# Altium schematic symbol library Connector.SchLib: 35 symbols
Pins are listed as number, name and electrical type; pins without a type are passive.

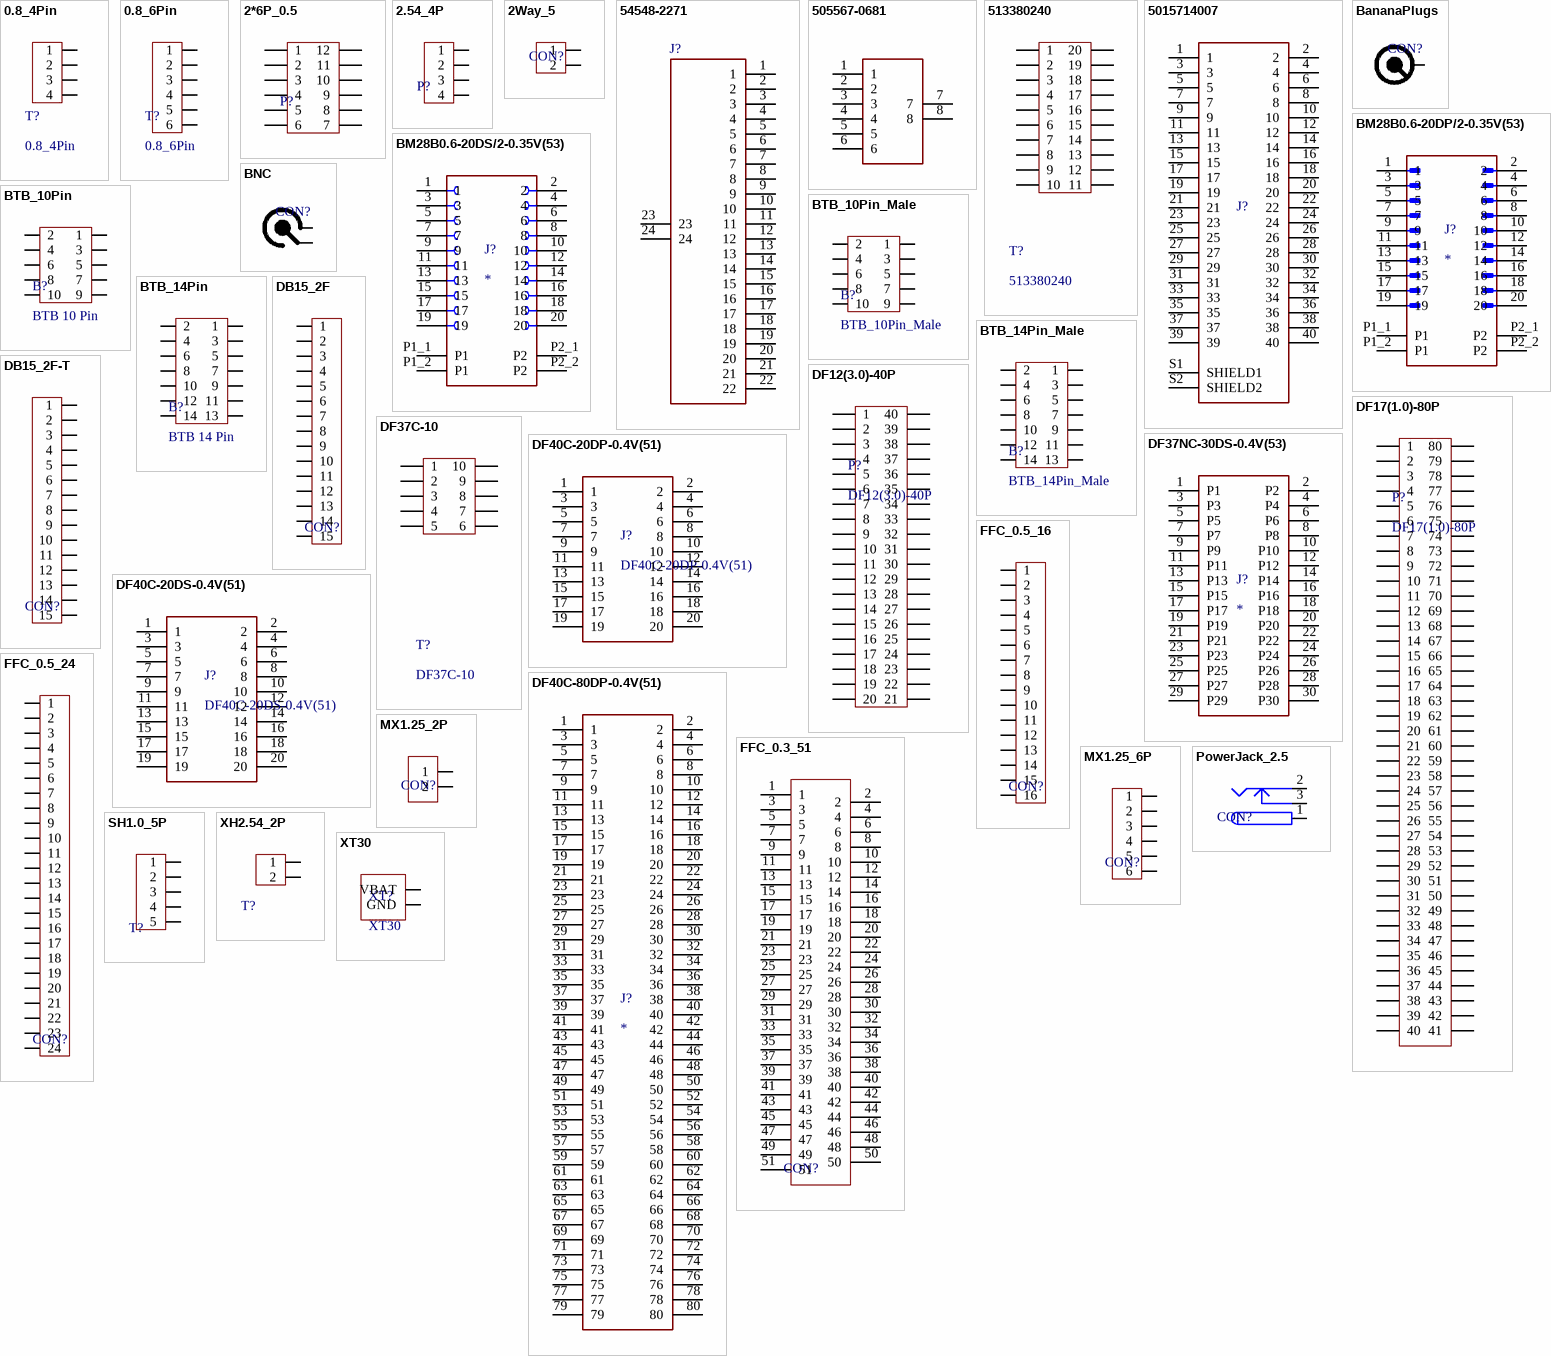
[diagram p0: symbols 0.8_4Pin to XT30]

## 0.8_4Pin
designator T?
footprint 0.8_4Pin
pins: 1, 2, 3, 4

## 0.8_6Pin
designator T?
footprint 0.8_6P
pins: 1, 2, 3, 4, 5, 6

## 2*6P_0.5
designator P?  (value not drawn)
footprint 2*6P_0.5_F
footprint 2*6P_0.5_M
pins: 1, 2, 3, 4, 5, 6, 7, 8, 9, 10, 11, 12

## 2.54_4P
designator P?  (value not drawn)
2.54 4P
footprint 2.54_4P
pins: 1, 2, 3, 4

## 2Way_5
designator CON?  (value not drawn)
DB
footprint 2Way_5
footprint PH2.0
pins: 1, 2

## 54548-2271
designator J?  (value not drawn)
FFC & FPC Connectors 0.5 FPC ZIF Hsg Assy ssy 22Ckt EmbsTp Pkg; Manufacturer_Name: Molex; Geometry.Height: 1mm; Manufacturer_Part_Number: 54548-2271; Mouser Part Number: 538-54548-2271; Mouser Price/Stock: https://www.mouser.co.uk/ProductDetail/Molex/54548-2271?qs=qM7ngqbhX5X3ZiWzRWv9wA%3D%3D; Arrow Part Number: *; Arrow Price/Stock: *; Datasheet Link: http://www.molex.com/webdocs/datasheets/pdf/en-us//0545482271_FFC_FPC_CONNECTORS.pdf
footprint 545482271
pins: 1, 2, 3, 4, 5, 6, 7, 8, 9, 10, 11, 12, 13, 14, 15, 16, 17, 18, 19, 20, 21, 22, 23, 24

## 505567-0681
designator ?  (value not drawn)
Headers & Wire Housings MicroLockPlus 1.25MM RA HDR SR 6P BLK GLD; Manufacturer_Name: Molex; Geometry.Height: 4mm; Manufacturer_Part_Number: 505567-0681; Mouser Part Number: 538-505567-0681; Mouser Price/Stock: https://www.mouser.co.uk/ProductDetail/Molex/505567-0681?qs=gt1LBUVyoHkS4UIskg%2Fkgw%3D%3D; Arrow Part Number: *; Arrow Price/Stock: *; Datasheet Link: https://www.molex.com/webdocs/datasheets/pdf/en-us/5055670681_PCB_HEADERS.pdf
footprint 5055670681
pins: 1, 2, 3, 4, 5, 6, 7, 8

## 513380240
designator T?
footprint 513380240
footprint 55909-0240
pins: 1, 2, 3, 4, 5, 6, 7, 8, 9, 10, 11, 12, 13, 14, 15, 16, 17, 18, 19, 20

## 5015714007
designator J?  (value not drawn)
MP: 5015714007; Value: *; Availability: Unavailable; Package: None; Price: None
footprint MOLEX_5015714007
pins: 1, 2, 3, 4, 5, 6, 7, 8, 9, 10, 11, 12, 13, 14, 15, 16, 17, 18, 19, 20, 21, 22, 23, 24, 25, 26, 27, 28, 29, 30, 31, 32, 33, 34, 35, 36, 37, 38, 39, 40, S1 SHIELD1, S2 SHIELD2

## BananaPlugs
designator CON?  (value not drawn)
footprint BananaPlugs_Black
footprint BananaPlugs_Red
pins: 1

## BM28B0.6-20DP/2-0.35V(53)
designator J?
CONN HDR 20POS SMD GOLD; MF: Hirose Electric Co Ltd; MP: BM28B0.6-20DP/2-0.35V(53); Value: *; Price: None; Package: None; Availability: Warning; Purchase-URL: https://pricing.snapeda.com/search/part/BM28B0.6-20DP/2-0.35V(53)/?ref=eda; SnapEDA_Link: https://www.snapeda.com/parts/BM28B0.6-20DP/2-0.35V(53)/Hirose%20Electric%20Co%20Ltd/view-part/5533725/?ref=snap; Check_prices: https://www.snapeda.com/parts/BM28B0.6-20DP/2-0.35V(53)/Hirose%20Electric%20Co%20Ltd/view-part/5533725/?ref=eda
footprint HIROSE_BM28B0.6-20DP/2-0.35V(53)
pins: 1, 2, 3, 4, 5, 6, 7, 8, 9, 10, 11, 12, 13, 14, 15, 16, 17, 18, 19, 20, P1_1 P1 (power), P1_2 P1 (power), P2_1 P2 (power), P2_2 P2 (power)

## BM28B0.6-20DS/2-0.35V(53)
designator J?
20 Position Connector Receptacle, Center Strip Contacts Surface Mount Gold; MP: BM28B0.6-20DS/2-0.35V(53); MF: Hirose Electric Co Ltd; Price: None; SnapEDA_Link: https://www.snapeda.com/parts/BM28B0.6-20DS/2-0.35V(53)/Hirose%20Electric%20Co%20Ltd/view-part/5469082/?ref=snap; Check_prices: https://www.snapeda.com/parts/BM28B0.6-20DS/2-0.35V(53)/Hirose%20Electric%20Co%20Ltd/view-part/5469082/?ref=eda; Availability: Warning; Value: *; Purchase-URL: https://pricing.snapeda.com/search/part/BM28B0.6-20DS/2-0.35V(53)/?ref=eda; Package: None
footprint HIROSE_BM28B0.6-20DS/2-0.35V(53)
pins: 1, 2, 3, 4, 5, 6, 7, 8, 9, 10, 11, 12, 13, 14, 15, 16, 17, 18, 19, 20, P1_1 P1 (power), P1_2 P1 (power), P2_1 P2 (power), P2_2 P2 (power)

## BNC
designator CON?  (value not drawn)
footprint BNC_4P
pins: 1, 2

## BTB_10Pin
designator B?, comment BTB 10 Pin
footprint BTB 10 Pin
pins: 1, 2, 3, 4, 5, 6, 7, 8, 9, 10

## BTB_10Pin_Male
designator B?
footprint BTB_10Pin_Male
pins: 1, 2, 3, 4, 5, 6, 7, 8, 9, 10

## BTB_14Pin
designator B?, comment BTB 14 Pin
footprint BTB 14 Pin
pins: 1, 2, 3, 4, 5, 6, 7, 8, 9, 10, 11, 12, 13, 14

## BTB_14Pin_Male
designator B?
footprint BTB_14Pin_Male
pins: 1, 2, 3, 4, 5, 6, 7, 8, 9, 10, 11, 12, 13, 14

## DB15_2F
designator CON?  (value not drawn)
DB
footprint DB15_2F
pins: 1, 2, 3, 4, 5, 6, 7, 8, 9, 10, 11, 12, 13, 14, 15

## DB15_2F-T
designator CON?  (value not drawn)
DB
footprint DB15_2F
pins: 1, 2, 3, 4, 5, 6, 7, 8, 9, 10, 11, 12, 13, 14, 15

## DF12(3.0)-40P
designator P?
footprint DF12(3.0)-40P-M
footprint DF12(3.0)-40P-f
pins: 1, 2, 3, 4, 5, 6, 7, 8, 9, 10, 11, 12, 13, 14, 15, 16, 17, 18, 19, 20, 21, 22, 23, 24, 25, 26, 27, 28, 29, 30, 31, 32, 33, 34, 35, 36, 37, 38, 39, 40

## DF17(1.0)-80P
designator P?
footprint DF17(1.0)-80P
pins: 1, 2, 3, 4, 5, 6, 7, 8, 9, 10, 11, 12, 13, 14, 15, 16, 17, 18, 19, 20, 21, 22, 23, 24, 25, 26, 27, 28, 29, 30, 31, 32, 33, 34, 35, 36, 37, 38, 39, 40, 41, 42, 43, 44, 45, 46, 47, 48, 49, 50, 51, 52, 53, 54, 55, 56, 57, 58, 59, 60, 61, 62, 63, 64, 65, 66, 67, 68, 69, 70, 71, 72, 73, 74, 75, 76, 77, 78, 79, 80

## DF37C-10
designator T?
footprint DF37NC-10DS
pins: 1, 2, 3, 4, 5, 6, 7, 8, 9, 10

## DF37NC-30DS-0.4V(53)
designator J?
30 Position Connector Receptacle, Center Strip Contacts Surface Mount Gold; MF: Hirose Electric; MP: DF37NC-30DS-0.4V_53_; Value: *; SnapEDA_Link: https://www.snapeda.com/parts/DF37NC-30DS-0.4V%2853%29/Hirose%20Electric%20Co%20Ltd/view-part/1657967/?ref=snap; Package: None; Digi-Key_Part_Number: DF37NC-30DS-0.4V_53_-ND; Digi-Key_Purchase_URL: https://www.digikey.com/product-detail/en/hirose-electric-co-ltd/DF37NC-30DS-0.4V_53_/DF37NC-30DS-0.4V_53_-ND/5132150?utm_source=snapeda&utm_medium=aggregator&utm_campaign=symbol
footprint DF37NC-30DS-0.4V
footprint DF37C-30DP-0.4V
pins: 1 P1, 2 P2, 3 P3, 4 P4, 5 P5, 6 P6, 7 P7, 8 P8, 9 P9, 10 P10, 11 P11, 12 P12, 13 P13, 14 P14, 15 P15, 16 P16, 17 P17, 18 P18, 19 P19, 20 P20, 21 P21, 22 P22, 23 P23, 24 P24, 25 P25, 26 P26, 27 P27, 28 P28, 29 P29, 30 P30

## DF40C-20DP-0.4V(51)
designator J?
20 Position Connector Plug, Outer Shroud Contacts Surface Mount Gold; MF: Hirose Electric; Purchase-URL: https://pricing.snapeda.com/search/part/DF40C-20DP-0.4V(51)/?ref=eda; Package: None; MP: DF40C-20DP-0.4V(51); Value: *; Availability: In Stock; Price: None
footprint DF40C-20DP-0.4V(51)
pins: 1, 2, 3, 4, 5, 6, 7, 8, 9, 10, 11, 12, 13, 14, 15, 16, 17, 18, 19, 20

## DF40C-20DS-0.4V(51)
designator J?
20 Position Connector Receptacle, Center Strip Contacts Surface Mount Gold; Package: None; Price: None; Value: *; MP: DF40C-20DS-0.4V(51); Availability: Unavailable
footprint DF40C-20DS-0.4V(51)
pins: 1, 2, 3, 4, 5, 6, 7, 8, 9, 10, 11, 12, 13, 14, 15, 16, 17, 18, 19, 20

## DF40C-80DP-0.4V(51)
designator J?
Board to Board & Mezzanine Connectors 80P SMT HEADER NO FITTING, NO BOSS; MP: DF40C-80DP-0.4V(51); MF: Hirose Connector; Price: None; Package: None; Check_prices: https://www.snapeda.com/parts/DF40C-80DP-0.4V(51)/Rose/view-part/4817246/?ref=eda; Value: *; Availability: Warning; SnapEDA_Link: https://www.snapeda.com/parts/DF40C-80DP-0.4V(51)/Rose/view-part/4817246/?ref=snap
footprint DF40C-80DP-0.4V(51)
pins: 1, 2, 3, 4, 5, 6, 7, 8, 9, 10, 11, 12, 13, 14, 15, 16, 17, 18, 19, 20, 21, 22, 23, 24, 25, 26, 27, 28, 29, 30, 31, 32, 33, 34, 35, 36, 37, 38, 39, 40, 41, 42, 43, 44, 45, 46, 47, 48, 49, 50, 51, 52, 53, 54, 55, 56, 57, 58, 59, 60, 61, 62, 63, 64, 65, 66, 67, 68, 69, 70, 71, 72, 73, 74, 75, 76, 77, 78, 79, 80

## FFC_0.3_51
designator CON?  (value not drawn)
FFC
footprint FFC_0.3_51
pins: 1, 2, 3, 4, 5, 6, 7, 8, 9, 10, 11, 12, 13, 14, 15, 16, 17, 18, 19, 20, 21, 22, 23, 24, 25, 26, 27, 28, 29, 30, 31, 32, 33, 34, 35, 36, 37, 38, 39, 40, 41, 42, 43, 44, 45, 46, 47, 48, 49, 50, 51

## FFC_0.5_16
designator CON?  (value not drawn)
FFC
footprint FFC_0.5_16
footprint FPC_0.5_16
pins: 1, 2, 3, 4, 5, 6, 7, 8, 9, 10, 11, 12, 13, 14, 15, 16

## FFC_0.5_24
designator CON?  (value not drawn)
FFC
footprint FFC_0.5_24
pins: 1, 2, 3, 4, 5, 6, 7, 8, 9, 10, 11, 12, 13, 14, 15, 16, 17, 18, 19, 20, 21, 22, 23, 24

## MX1.25_2P
designator CON?  (value not drawn)
MX
footprint MX1.25_S90_2P
pins: 1, 2

## MX1.25_6P
designator CON?  (value not drawn)
MX
footprint MX1.25_S90_6P
footprint MX1.25_6P
pins: 1, 2, 3, 4, 5, 6

## PowerJack_2.5
designator CON?  (value not drawn)
DC Power Jack
footprint KLD_0202
pins: 1 (power), 2 (power), 3 (power)

## SH1.0_5P
designator T?  (value not drawn)
footprint SH1.0_5P
pins: 1, 2, 3, 4, 5

## XH2.54_2P
designator T?  (value not drawn)
footprint XH2.54_2P
pins: 1, 2

## XT30
designator XT?
footprint XT30
footprint XT30-M
pins: 1 VBAT, 2 GND